# Altium footprint library SOT23-3P95_242X140L60X40N.PcbLib: 1 footprints
Each footprint in its own frame and in the unit in brackets; x right, y up, seen from the top. Pads: shape width x height; smd on the part's side, far side on the other; paste and mask are expansions set on the pad; w line width, h text height; cw(c..) or ccw(c..) is an arc to the next point about the centre after c.
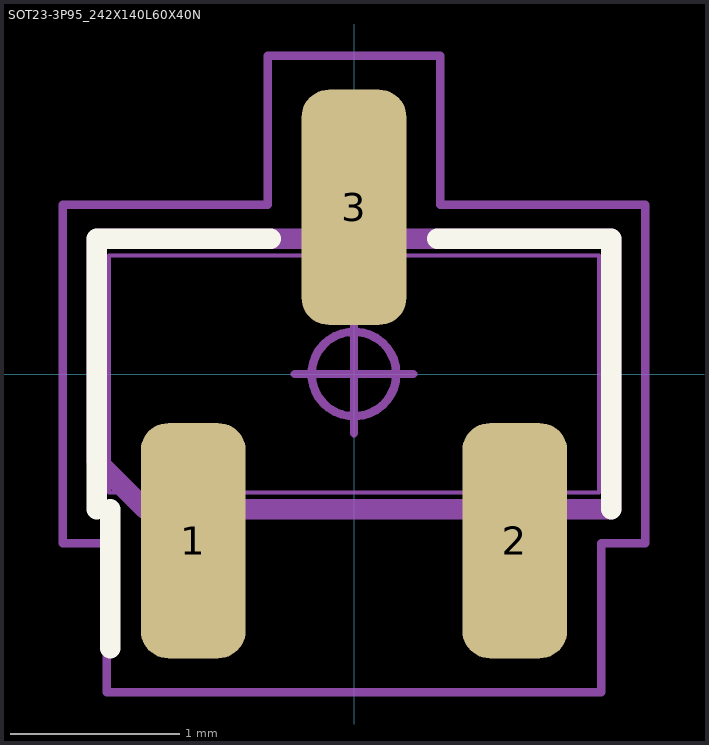
[diagram p0: the footprint, top view; thin cyan lines are the x and y axes]

## SOT23-3P95_242X140L60X40N [mm] "Small Outline Transistor (SOT23), 0.95 mm pitch; 3 pin, 2.895 mm L X 1.40 mm W X 1.40 mm H body"
height 1.4
pads (3):
  rrect52% 0.62x1.39 smd: 1(-0.95,-0.985) 2(0.95,-0.985) 3(0,0.985)
Top Overlay:
  lines w0.12: -1.52,-0.8 -1.52,0.8 -0.49,0.8 ; -1.44,-1.62 -1.44,-0.8 ; 0.49,0.8 1.52,0.8 1.52,-0.8
Mechanical 3:
  lines w0.12: -1.52,-0.512 -1.232,-0.8 1.52,-0.8 1.52,0.8 -1.52,0.8 -1.52,-0.512
Mechanical 5:
  lines w0.025: -1.448,-0.7 -1.448,0.7 1.448,0.7 1.448,-0.7 -1.448,-0.7 ; -1.152,-1.212 -0.747,-1.212 -0.747,-0.613 -1.152,-0.613 -1.152,-1.212 ; -0.202,0.613 0.202,0.613 0.202,1.212 -0.202,1.212 -0.202,0.613 ; 0.747,-1.212 1.152,-1.212 1.152,-0.613 0.747,-0.613 0.747,-1.212
Mechanical 7:
  circle w0.05: c0,0 r0.25
  lines w0.05: -0.35,0 0.35,0 ; 0,-0.35 0,0.35 ; -1.72,-1 -1.72,1 -0.51,1 -0.51,1.88 0.51,1.88 0.51,1 1.72,1 1.72,-1 1.46,-1 1.46,-1.88 -1.46,-1.88 -1.46,-1 -1.72,-1
Mechanical 9:
  text "'.Designator'" at -5.588,-0.381 h1
3D body "SOT23-3P95_242X140L60X40.STEP": height 1.4, standoff 0, extent -1.448,-1.212 1.448,1.212
3D body: height 1.04, standoff 0, extent -1.72,-1.88 1.72,1.88